# Altium schematic symbol library Motor Driver Board 2019-2020.SCHLIB: 73 symbols (part 2 of 2)
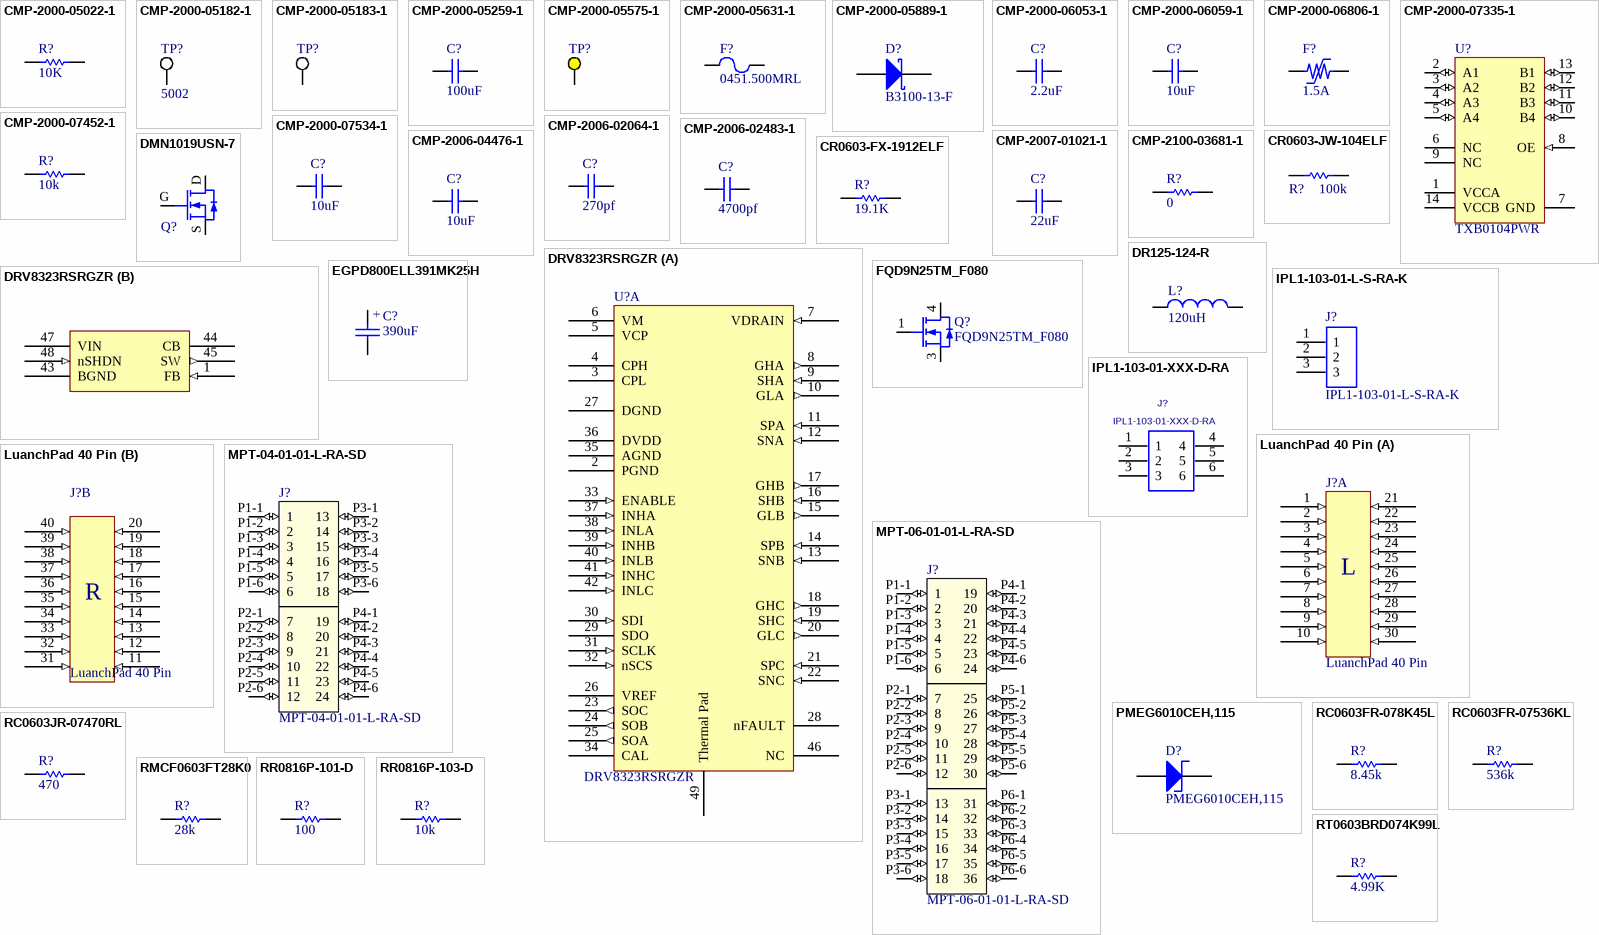
[diagram p3: symbols CMP-2000-05022-1 to RT0603BRD074K99L]

## CMP-2006-02064-1
designator C?, comment 270pf
Manufacturer: AVX Interconnect / Elco; Part Number: 06035C271KAT2A; Manufacturer 1: Kyocera AVX; ClassName: 5V Regulator; Manufacturer Part Number 1: 06035C271KAT2A
footprint CAPC1608X90X35ML15T15 (Chip Capacitor, 2-Leads, Body 1.60x0.81mm, IPC Low Density)
footprint CAPC1608X90X35LL15T15 (Chip Capacitor, 2-Leads, Body 1.60x0.81mm, IPC High Density)
footprint CAPC1608X90X35NL15T15 (Chip Capacitor, 2-Leads, Body 1.60x0.81mm, IPC Medium Density)
pins: 1, 2
1 alternate drawing of the same symbol

## CMP-2006-02483-1
designator C?, comment 4700pf
Part Number: GRM188R72A472KA01D; Manufacturer: Murata; ClassName: 5V Regulator; Manufacturer 1: Murata; Manufacturer Part Number 1: GRM188R72A472KA01D
footprint CAPC1608X90X35ML10T15 (Chip Capacitor, 2-Leads, Body 1.60x0.80mm, IPC Low Density)
footprint CAPC1608X90X35LL10T15 (Chip Capacitor, 2-Leads, Body 1.60x0.80mm, IPC High Density)
footprint CAPC1608X90X35NL10T15 (Chip Capacitor, 2-Leads, Body 1.60x0.80mm, IPC Medium Density)
pins: 1, 2
1 alternate drawing of the same symbol

## CMP-2006-04476-1
designator C?, comment 10uF
Manufacturer: AVX Interconnect / Elco; Part Number: 06036D106MAT2A; Manufacturer 1: Kyocera AVX; Manufacturer Part Number 1: 06036D106MAT2A
footprint CAPC1608X90X35ML15T15 (Chip Capacitor, 2-Leads, Body 1.60x0.81mm, IPC Low Density)
footprint CAPC1608X90X35LL15T15 (Chip Capacitor, 2-Leads, Body 1.60x0.81mm, IPC High Density)
footprint CAPC1608X90X35NL15T15 (Chip Capacitor, 2-Leads, Body 1.60x0.81mm, IPC Medium Density)
pins: 1, 2
1 alternate drawing of the same symbol

## CMP-2007-01021-1
designator C?, comment 22uF
Part Number: C0805C226M9PAC7800; Manufacturer: Kemet; Manufacturer Part Number 1: C0805C226M9PACTU; ClassName: Throttle; Manufacturer 1: KEMET
footprint CAPC2013X145X50ML20T25 (Chip Capacitor, 2-Leads, Body 2.00x1.25mm, IPC Low Density)
footprint CAPC2013X145X50LL20T25 (Chip Capacitor, 2-Leads, Body 2.00x1.25mm, IPC High Density)
footprint CAPC2013X145X50NL20T25 (Chip Capacitor, 2-Leads, Body 2.00x1.25mm, IPC Medium Density)
pins: 1, 2
1 alternate drawing of the same symbol

## CMP-2100-03681-1
designator R?, comment 0
Chip Resistor, 0 Ohm, +/- 5%, -55 to 155 degC, 1206 (3216 Metric), RoHS, Tape and Reel; Manufacturer: Yageo; Manufacturer Part Number 1: RC1206JR-070RL; Max Power Dissipation: 250mW; Resistance: 0mOhm; Voltage Rating: 200V; Temperature Coefficient: 200ppm/degreesC; Case Code (Imperial): 1206; Lead Free: LeadFree; Package Quantity: 5000; Radiation Hardening: No; Tolerance: 5%; Length: 3.1mm; Termination: SMD/SMT; Contact Plating: Tin; Military Standard: Not; Manufacturer URL: http://www.yageo.com/; Datasheet URL: http://www.yageo.com/documents/recent/PYu-RC_Group_51_RoHS_L_5.pdf; Height: 0.026inch; RoHSCompliant: true; Min Operating Temperature: -55degC; REACH SVHC: Unknown; Max Operating Temperature: 155degC; Depth: 1.6mm; Packaging: TapeandReel; Package Reference: 1206.0; Number of Terminations: 2; Case/Package: 1206; Composition: CarbonFilm; Case Code (Metric): 3216; Datasheet Version: Rev. 5, 10/2016; Power Rating: 250mW; Package Description: 2-Pin Surface Mount Device, Body 3.1 x 1.6 mm; Width: 0.063inch; ClassName: Throttle; Manufacturer 1: Yageo
footprint RESC3116X65X40ML10T20 (Chip Resistor, 2-Leads, Body 3.10x1.60mm, IPC Low Density)
footprint RESC3116X65X40NL10T20 (Chip Resistor, 2-Leads, Body 3.10x1.60mm, IPC Medium Density)
footprint RESC3116X65X40LL10T20 (Chip Resistor, 2-Leads, Body 3.10x1.60mm, IPC High Density)
pins: 1, 2

## CR0603-FX-1912ELF
designator R?, comment 19.1K
RES SMD 19.1K OHM 1% 1/10W 0603; Manufacturer 1: Bourns; Manufacturer Part Number 1: CR0603-FX-1912ELF; Resistance: 19.1kR; Power Rating: 100mW; Voltage Rating: 50V; Temperature Coefficient: 100ppm/°C; Supplier 1: Digi-Key; Stock 1: 78916; Pricing 1: 1=0.10000, 10=0.02000, 100=0.00820, 1000=0.00367, 2500=0.00319 (USD); RoHS: Yes; Mount: Surface Mount; Case/Package: 0603; Case Code (Metric): 1608; Case Code (Imperial): 0603; Contact Plating: Tin; Min Operating Temperature: -55°C; Max Operating Temperature: 155°C; Package Quantity: 5000; Packaging: Tape and Reel; Tolerance: 1%; Composition: Thick Film; Number of Terminations: 2; Termination: SMD/SMT; Military Standard: Not; Max Power Dissipation: 100mW; Features: Moisture Resistant; Length: 1.6mm; Height: 0.022inch; Width: 0.031inch; Depth: 0.8mm; Thickness: 457um; Radiation Hardening: No; ComponentLink1URL: https://datasheet.ciiva.com/5549/chpreztr-5549702.pdf?src-supplier=Mouser; ComponentLink1Description: https://datasheet.ciiva.com/5549/chpreztr-5549702.pdf?src-supplier=Mouser; ComponentLink2URL: https://datasheet.ciiva.com/9121/chpreztr-9121960.pdf?src-supplier=Avnet; ComponentLink2Description: https://datasheet.ciiva.com/9121/chpreztr-9121960.pdf?src-supplier=Avnet; ClassName: Throttle
footprint CAPC1608X05L (Chip Capacitor, 2-Leads, Body 1.60x0.80mm, IPC High Density)
pins: 1, 2

## CR0603-JW-104ELF
designator R?, comment 100k
BOURNS - CR0603-JW-104ELF - RES, 100K, 5%, 0.1W, 0603, THICK FILM; Resistance: 100kR; Power Rating: 100mW; Voltage Rating: 50V; Temperature Coefficient: 200ppm/°C; Supplier 1: Digi-Key; Manufacturer 1: Bourns; Manufacturer Part Number 1: CR0603-JW-104ELF; Stock 1: 49390; Pricing 1: 1=0.10000, 10=0.01500, 25=0.01080, 50=0.00840, 100=0.00610, 250=0.00468, 500=0.00374, 1000=0.00275 (USD); RoHS: Yes; Mount: Surface Mount; Case/Package: 0603; Number of Pins: 2; Case Code (Imperial): 0603; Case Code (Metric): 1608; Contact Plating: Tin; Min Operating Temperature: -55°C; Max Operating Temperature: 155°C; Packaging: Tape and Reel; Tolerance: 5%; Package Quantity: 5000; Composition: Thick Film; Termination: SMD/SMT; Working Voltage: 50V; Military Standard: Not; Voltage Rating (DC): 50V; Length: 1.6mm; Height: 0.45mm; Width: 0.8mm; Depth: 0.8mm; Thickness: 457um; Radiation Hardening: No; REACH SVHC: No SVHC; ComponentLink1URL: https://datasheet.ciiva.com/22713/691949-22713239.pdf?src-supplier=Element14; ComponentLink1Description: https://datasheet.ciiva.com/22713/691949-22713239.pdf?src-supplier=Element14; ComponentLink2URL: https://datasheet.ciiva.com/23776/1902866-23776391.pdf?src-supplier=Newark; ComponentLink2Description: https://datasheet.ciiva.com/23776/1902866-23776391.pdf?src-supplier=Newark; ComponentLink3URL: https://datasheet.ciiva.com/16766/70154685-16766760.pdf?src-supplier=Allied+Electronics; ComponentLink3Description: https://datasheet.ciiva.com/16766/70154685-16766760.pdf?src-supplier=Allied+Electronics; ComponentLink4URL: https://datasheet.ciiva.com/9120/chpreztr-9120764.pdf?src-supplier=Avnet; ComponentLink4Description: https://datasheet.ciiva.com/9120/chpreztr-9120764.pdf?src-supplier=Avnet; ComponentLink5URL: https://datasheet.ciiva.com/46383/1791942-46383790.pdf?src-supplier=Element14; ComponentLink5Description: https://datasheet.ciiva.com/46383/1791942-46383790.pdf?src-supplier=Element14; ComponentLink6URL: https://datasheet.ciiva.com/30229/159chpreztr-30229129.pdf?src-supplier=Onlinecomponents.com; ComponentLink6Description: https://datasheet.ciiva.com/30229/159chpreztr-30229129.pdf?src-supplier=Onlinecomponents.com; ComponentLink7URL: https://datasheet.ciiva.com/16935/chpreztr-16935963.pdf?src-supplier=Avnet+Europe; ComponentLink7Description: https://datasheet.ciiva.com/16935/chpreztr-16935963.pdf?src-supplier=Avnet+Europe; ComponentLink8URL: https://datasheet.ciiva.com/5543/chpreztr-5543676.pdf?src-supplier=Mouser; ComponentLink8Description: https://datasheet.ciiva.com/5543/chpreztr-5543676.pdf?src-supplier=Mouser; ComponentLink9URL: https://datasheet.ciiva.com/48692/001055501-da-01-en-smd-wid-cr0603-jw-104elf-100k-ohm-1-10w-48692133.pdf?src-supplier=Conrad; ComponentLink9Description: https://datasheet.ciiva.com/48692/001055501-da-01-en-smd-wid-cr0603-jw-104elf-100k-ohm-1-10w-48692133.pdf?src-supplier=Conrad; ClassName: 3.3V Regulator
footprint CAPC1608X05L (Chip Capacitor, 2-Leads, Body 1.60x0.80mm, IPC High Density)
pins: 1, 2

## DMN1019USN-7
designator Q?  (value not drawn)
MOSFET N-CH 12V 9.3A SC59; Manufacturer 1: Diodes; Capacitance: 2.426E-09F; Rds On Max: 10mR; Input Capacitance: 2.426nF; Max Power Dissipation: 680mW; Element Configuration: Single; Number of Channels: 1; Drain to Source Resistance: 41mR; Gate to Source Voltage (Vgs): 4.5V; Fall Time: 16.8ns; Rise Time: 57.6ns; Turn-Off Delay Time: 22.2ns; Turn-On Delay Time: 7.6ns; Supplier 1: Digi-Key; Manufacturer Part Number 1: DMN1019USN-7; Stock 1: 30621; Pricing 1: 1=0.44000, 10=0.35400, 100=0.24130, 500=0.18096, 1000=0.13572 (USD); RoHS: Yes; Mount: Surface Mount; Case/Package: TO-236-3; Weight: 0.000282oz; Min Operating Temperature: -55°C; Max Operating Temperature: 150°C; Packaging: Tape and Reel; Drain to Source Voltage (Vdss): 12V; Continuous Drain Current (ID): 9.3A; Drain to Source Breakdown Voltage: 12V; Package Quantity: 3000; Lead Free: Lead Free; ComponentLink1URL: http://www.mouser.com/ds/2/115/DMN1019USN-336718.pdf?src-supplier=Mouser; ComponentLink1Description: http://www.mouser.com/ds/2/115/DMN1019USN-336718.pdf?src-supplier=Mouser; ComponentLink2URL: https://www.diodes.com/assets/Datasheets/DMN1019USN.pdf?src-supplier=Digi-Key; ComponentLink2Description: https://www.diodes.com/assets/Datasheets/DMN1019USN.pdf?src-supplier=Digi-Key
footprint SOT95P285X140-3N (SOT23, 3-Leads, Body 3.00x2.85mm, Pitch 0.95mm, IPC Medium Density)
pins: D, G, S

## DR125-124-R
designator L?, comment 120uH
Fixed Inductors 120 000uH 0.069A 150ohms; Manufacturer 1: Eaton Bussmann; Manufacturer Part Number 1: DR125-124-R; Core Material: Ferrite; Tolerance: 20%; Shielding: Shielded; Saturation Current: 58A; Current Rating: 60mA; Inductance: 120mH; DC Resistance (DCR): 150R; Test Frequency: 100kHz; Current: 60A; Max DC Current: 69mA; Supplier 1: Digi-Key; Stock 1: 1520; Pricing 1: 1=1.95000, 10=1.80100, 100=1.26060 (USD); RoHS: Yes; Mount: Surface Mount; Case/Package: 120; Number of Pins: 2; Weight: 0.016oz; Min Operating Temperature: -40°C; Max Operating Temperature: 125°C; Packaging: Tape and Reel; Package Quantity: 600; Termination: SMD/SMT; DC Current: 60mA; Military Standard: Not; Length: 12.5mm; Height: 6mm; Width: 0.492inch; Depth: 12.5mm; Lead Free: Lead Free; ComponentLink1URL: https://datasheet.ciiva.com/16291/4a32919a-7470-4ae0-be45-b59e3a1351ef-16291744.pdf?src-supplier=Future+Electronics; ComponentLink1Description: https://datasheet.ciiva.com/16291/4a32919a-7470-4ae0-be45-b59e3a1351ef-16291744.pdf?src-supplier=Future+Electronics; ComponentLink2URL: https://datasheet.ciiva.com/4958/bus-elx-ds-4315-dr-series-4958109.pdf?src-supplier=Mouser; ComponentLink2Description: https://datasheet.ciiva.com/4958/bus-elx-ds-4315-dr-series-4958109.pdf?src-supplier=Mouser; ClassName: Throttle
footprint INDP125125X60N (Precision Wire Wound Inductor, 2-Leads, Body 12.50x12.50mm, IPC Medium Density)
pins: 1, 2

## DRV8323RSRGZR
designator U?
IC 3PHASE GATE DRIVER 48VQFN; Manufacturer: Texas Instruments; Supplier 1: Digi-Key; Manufacturer Part Number: DRV8323RSRGZR; Stock 1: 5951; Pricing 1: 1=4.44, 10=3.991, 100=3.2698, 500=2.78356, 1000=2.34758 (USD); Min Operating Temperature: -40°C; Max Operating Temperature: 125°C; Supplier 2: Digi-Key; Manufacturer 2: Texas Instruments; Manufacturer Part Number 2: DRV8323RSRGZR; Stock 2: 7391; Pricing 2: 1=4.44000, 10=3.99100, 100=3.26980, 500=2.78356, 1000=2.34758 (USD); RoHS: No; ComponentLink1URL: http://www.ti.com/lit/ds/symlink/drv8323r.pdf?src-supplier=Digi-Key; ComponentLink1Description: http://www.ti.com/lit/ds/symlink/drv8323r.pdf?src-supplier=Digi-Key
footprint QFN50P700X700X100_HS-49N (QFN, 48-Leads, Body 7.00x7.00mm, Pitch 0.50mm, Thermal Pad 5.15x5.15mm, IPC Medium Density)
part A pins: 2 PGND (power) "Device power ground. Connect to system ground.", 3 CPL (power) "Charge pump switching node. Connect a X5R or X7R, 47-nF, VM-rated ceramic capacitor between the CPH and CPL pins.", 4 CPH (power) "Charge pump switching node. Connect a X5R or X7R, 47-nF, VM-rated ceramic capacitor between the CPH and CPL pins.", 5 VCP (power) "Charge pump output. Connect a X5R or X7R, 1-µF, 16-V ceramic capacitor between the VCP and VM pins.", 6 VM (power) "Gate driver power supply input. Connect to the bridge power supply. Connect a X5R or X7R, 0.1-µF, VM-rated ceramic and  greater then or equal to 10-uF local capacitance between the VM and PGND pins.", 7 VDRAIN (in) "High-side MOSFET drain sense input. Connect to the common point of the MOSFET drains.", 8 GHA (out) "High-side gate driver output. Connect to the gate of the high-side power MOSFET", 9 SHA (in) "High-side source sense input. Connect to the high-side power MOSFET source.", 10 GLA (out) "Low-side gate driver output. Connect to the gate of the low-side power MOSFET.", 11 SPA (in) "Low-side source sense and shunt amplifier input. Connect to the low-side power MOSFET source and high-side of the  current shunt resistor.", 12 SNA (in) "Shunt amplifier input. Connect to the low-side of the current shunt resistor.", 13 SNB (in) "Shunt amplifier input. Connect to the low-side of the current shunt resistor.", 14 SPB (in) "Low-side source sense and shunt amplifier input. Connect to the low-side power MOSFET source and high-side of the  current shunt resistor.", 15 GLB (out) "Low-side gate driver output. Connect to the gate of the low-side power MOSFET.", 16 SHB (in) "High-side source sense input. Connect to the high-side power MOSFET source.", 17 GHB (out) "High-side gate driver output. Connect to the gate of the high-side power MOSFET", 18 GHC (out) "High-side gate driver output. Connect to the gate of the high-side power MOSFET", 19 SHC (in) "High-side source sense input. Connect to the high-side power MOSFET source.", 20 GLC (out) "Low-side gate driver output. Connect to the gate of the low-side power MOSFET.", 21 SPC (in) "Low-side source sense and shunt amplifier input. Connect to the low-side power MOSFET source and high-side of the  current shunt resistor.", 22 SNC (in) "Shunt amplifier input. Connect to the low-side of the current shunt resistor.", 23 SOC (out) "Shunt amplifier output.", 24 SOB (out) "Shunt amplifier output.", 25 SOA (out) "Shunt amplifier output.", 26 VREF (power) "Shunt amplifier power supply input and reference. Connect a X5R or X7R, 0.1-µF, 6.3-V ceramic capacitor between the  VREF and AGND pins.", 27 DGND (power) "Device ground. Connect to system ground.", 28 nFAULT (oc) "Fault indicator output. This pin is pulled logic low during a fault condition and requires an external pullup resistor", 29 SDO (oc) "Serial data output. Data is shifted out on the rising edge of the SCLK pin. This pin requires an external pullup resistor.", 30 SDI (in) "Serial data input. Data is captured on the falling edge of the SCLK pin.", 31 SCLK (in) "Serial clock input. Serial data is shifted out and captured on the corresponding rising and falling edge on this pin.", 32 nSCS (in) "Serial chip select. A logic low on this pin enables serial interface communication.", 33 ENABLE (in) "Gate driver enable. When this pin is logic low the device enters a low power sleep mode. An 8 to 40-µs low pulse can be  used to reset fault conditions.", 34 CAL (power) "Amplifier calibration input. Set logic high to internally short amplifier inputs and perform auto offset calibration.", 35 AGND (power) "Device analog ground. Connect to system ground.", 36 DVDD (power) "3.3-V internal regulator output. Connect a X5R or X7R, 1-µF, 6.3-V ceramic capacitor between the DVDD and AGND pins.  This regulator can source up to 30 mA externally.", 37 INHA (in) "High-side gate driver control input. This pin controls the output of the high-side gate driver.", 38 INLA (in) "Low-side gate driver control input. This pin controls the output of the low-side gate driver.", 39 INHB (in) "High-side gate driver control input. This pin controls the output of the high-side gate driver.", 40 INLB (in) "Low-side gate driver control input. This pin controls the output of the low-side gate driver.", 41 INHC (in) "High-side gate driver control input. This pin controls the output of the high-side gate driver.", 42 INLC (in) "Low-side gate driver control input. This pin controls the output of the low-side gate driver.", 46 NC (hiz) "No internal connection. This pin can be left floating or connected to system ground.", 49 Thermal Pad
part B pins: 1 FB (in) "Buck feedback input. A resistor divider from the buck post inductor output to this pin sets the buck output voltage.", 43 BGND (power) "Buck regulator ground. Connect to system ground.", 44 CB (power) "Buck regulator bootstrap input. Connect a X5R or X7R, 0.1-µF, 16-V, capacitor between the CB and SW pins", 45 SW (out) "Buck switch node. Connect this pin to an inductor, diode, and the CB bootstrap capacitor.", 47 VIN (power) "Buck regulator power supply input. Place an X5R or X7R, VM-rated ceramic capacitor between the VIN and BGND pins.", 48 nSHDN (in) "Buck shutdown input. Enable and disable input (high voltage tolerant). Internal pullup current source. Pull below 1.25 V to  disable. Float to enable. Establish input undervoltage lockout with two resistor divider."

## EGPD800ELL391MK25H
designator C?, comment 390uF
CAP ALUM 390UF 20% 80V RADIAL; Manufacturer 1: United Chemi-Con; Manufacturer Part Number 1: EGPD800ELL391MK25H; ESR (Equivalent Series Resistance): 52mR; Ripple Current: 2.05A; Life (Hours): 3000Hour; Lead/Base Style: Straight; Supplier 1: Digi-Key; Stock 1: 4261; Pricing 1: 1=1.62000, 10=1.28300, 100=0.96200, 500=0.72684, 1000=0.64133, 2500=0.59857, 5000=0.58147 (USD); RoHS: Yes; Mount: Through Hole; Case/Package: Radial; Min Operating Temperature: -40°C; Max Operating Temperature: 135°C; Capacitance: 390uF; Package Quantity: 1000; Packaging: Bulk; Voltage Rating: 80V; Tolerance: 20%; Termination: Radial; Voltage Rating (DC): 80V; Diameter: 12.5mm; Length: 25mm; Height: 12.5mm; Lead Pitch: 0.197inch; Height - Seated (Max): 1.043inch; Width: 12.5mm; ComponentLink1URL: https://datasheet.ciiva.com/31836/76cat-db-al-cgieejppdfnamegpd-cgieejppdfnamegpd-31836902.pdf?src-supplier=Onlinecomponents.com; ComponentLink1Description: https://datasheet.ciiva.com/31836/76cat-db-al-cgieejppdfnamegpd-cgieejppdfnamegpd-31836902.pdf?src-supplier=Onlinecomponents.com; ClassName: FETBridge
simulation model Model Name (Model Description)
footprint EGPD800ELL391MK25H
pins: 1, 2
text: +

## FQD9N25TM_F080
designator Q?
Trans MOSFET N-CH 250V 7.4A 3-Pin(2+Tab) DPAK T/R; Manufacturer: ON Semiconductor / Fairchild; Rise Time: 105ns; Fall Time: 45ns; Turn-Off Delay Time: 25ns; Turn-On Delay Time: 13ns; Gate to Source Voltage (Vgs): 30V; Rds On Max: 420mR; Input Capacitance: 700pF; Max Power Dissipation: 2.5W; Element Configuration: Single; Supplier 1: Digi-Key; Manufacturer Part Number: FQD9N25TM_F080; Stock 1: 2322; Pricing 1: 1=1.77, 10=1.563, 100=1.2355, 500=0.95816, 1000=0.75644 (USD); Mount: Surface Mount; Case/Package: TO-252-3; Number of Pins: 3; Weight: 0.26037g; Min Operating Temperature: -55°C; Max Operating Temperature: 150°C; Continuous Drain Current (ID): 7.4A; Package Quantity: 2500; Packaging: Tape and Reel; Drain to Source Voltage (Vdss): 250V; Drain to Source Breakdown Voltage: 250V; Power Dissipation: 2.5W; Drain to Source Resistance: 420mR; Radiation Hardening: No; ComponentLink1URL: https://www.fairchildsemi.com/tape-and-reel-drawings/PKG-TO252A03.pdf; ComponentLink1Description: https://www.fairchildsemi.com/tape-and-reel-drawings/PKG-TO252A03.pdf; ComponentLink2URL: https://www.fairchildsemi.com/datasheets/FQ/FQD9N25.pdf; ComponentLink2Description: https://www.fairchildsemi.com/datasheets/FQ/FQD9N25.pdf
footprint DPAK229P991X239-3N (D-PAK, 3-Pads, Body 6.21x6.73mm (max), IPC Medium Density)
pins: 1 G, 3 S, 4 D

## IPL1-103-01-L-S-RA-K
designator J?
CONN HEADER R/A 3POS 2.54MM; Manufacturer 1: Samtec; Max Current Rating: 7.4A; Number of Contacts: 3; Number of Ports: 1; Max Voltage Rating (AC): 675V; Gender: Male; Supplier 1: Digi-Key; Manufacturer Part Number 1: IPL1-103-01-L-S-RA-K; Stock 1: 209; Pricing 1: 1=2.59000, 10=2.34700, 100=2.01180, 500=1.67650, 1000=1.43700, 5000=1.27414 (USD); RoHS: Yes; Mount: Through Hole; Contact Material: Bronze; Contact Plating: Gold; Number of Terminals: 3; Housing Material: Polymer; Min Operating Temperature: -55°C; Max Operating Temperature: 125°C; Termination: Solder; Orientation: Right Angle; Packaging: Bulk; Length: 9.14mm; Pitch: 2.54mm; Depth: 9.65mm; Radiation Hardening: No; ComponentLink1URL: http://www.farnell.com/datasheets/2607185.pdf?src-supplier=Farnell; ComponentLink1Description: http://www.farnell.com/datasheets/2607185.pdf?src-supplier=Farnell; ComponentLink2URL: http://components.arrow.com/part/dataview/0323_03818136?src-supplier=Arrow+Europe; ComponentLink2Description: http://components.arrow.com/part/dataview/0323_03818136?src-supplier=Arrow+Europe; ComponentLink3URL: http://www.samtec.com/documents/webfiles/pdf/ipl1.pdf?src-supplier=Avnet+Europe; ComponentLink3Description: http://www.samtec.com/documents/webfiles/pdf/ipl1.pdf?src-supplier=Avnet+Europe; ComponentLink4URL: http://www.samtec.com/documents/webfiles/pdf/ipl1.pdf?src-supplier=Avnet; ComponentLink4Description: http://www.samtec.com/documents/webfiles/pdf/ipl1.pdf?src-supplier=Avnet; ComponentLink5URL: http://www.farnell.com/datasheets/2607185.pdf?src-supplier=Newark; ComponentLink5Description: http://www.farnell.com/datasheets/2607185.pdf?src-supplier=Newark; ComponentLink6URL: http://suddendocs.samtec.com/prints/ipl1-1xx-xx-xxx-s-xx-x-xx-mkt.pdf?src-supplier=Digi-Key; ComponentLink6Description: http://suddendocs.samtec.com/prints/ipl1-1xx-xx-xxx-s-xx-x-xx-mkt.pdf?src-supplier=Digi-Key
footprint IPL1-103-01-XXX-S-RA
pins: 1, 2, 3

## IPL1-103-01-XXX-D-RA
designator J?
Terminal Assembly, Double Row, Right Angle, Thru-Hole, 0.100" x 0.100" Pitch, 6Pins; MANUFACTURER: SAMTEC; CREATED: July 16, 2014 - Wendy Xin; PCB DECAL: IPL1-103-01-XXX-D-RA
footprint IPL1-103-01-XXX-D-RA
pins: 1, 2, 3, 4, 5, 6

## LuanchPad 40 Pin
designator J?
Designed to fit a TI luanchpad board or expansion board
footprint TI LuanchPad (Fits ti LuanchPad)
part A pins: 1 (in), 2 (in), 3 (in), 4 (in), 5 (in), 6 (in), 7 (in), 8 (in), 9 (in), 10 (in), 21 (in), 22 (in), 23 (in), 24 (in), 25 (in), 26 (in), 27 (in), 28 (in), 29 (in), 30 (in)
part B pins: 11 (in), 12 (in), 13 (in), 14 (in), 15 (in), 16 (in), 17 (in), 18 (in), 19 (in), 20 (in), 31 (in), 32 (in), 33 (in), 34 (in), 35 (in), 36 (in), 37 (in), 38 (in), 39 (in), 40 (in)
part A text: L
part B text: R

## MPT-04-01-01-L-RA-SD
designator J?
SAMTEC - MPT-04-01-01-L-RA-SD - HEADER, 4WAY, POWER, R/A; Current Rating: 34.8A; Voltage Rating: 848V; Number of Contacts: 4; Number of Ports: 1; Max Voltage Rating (AC): 600V; Gender: Male; Pitch: 5mm; Supplier 1: Digi-Key; Manufacturer 1: Samtec; Manufacturer Part Number 1: MPT-04-01-01-L-RA-SD; Stock 1: 186; Pricing 1: 1=5.98000, 48=5.25792, 144=4.78000, 528=4.06299, 1008=3.46550 (USD); RoHS: Yes; Mount: Through Hole; Contact Plating: Gold; Contact Material: Copper Alloy,Copper; Number of Terminals: 32; Housing Material: Polymer; Min Operating Temperature: -55°C; Max Operating Temperature: 125°C; Number of Rows: 1; Packaging: Bulk; Termination: Solder; Orientation: Right Angle; Length: 31.36mm; Lead Pitch: 5mm; Depth: 14.81mm; Radiation Hardening: No; REACH SVHC: No SVHC; ComponentLink1URL: https://datasheet.ciiva.com/7997/452746-7997632.pdf?src-supplier=Element14; ComponentLink1Description: https://datasheet.ciiva.com/7997/452746-7997632.pdf?src-supplier=Element14; ComponentLink2URL: https://datasheet.ciiva.com/25617/0900766b81157edd-25617154.pdf?src-supplier=RSComponents; ComponentLink2Description: https://datasheet.ciiva.com/25617/0900766b81157edd-25617154.pdf?src-supplier=RSComponents; ComponentLink3URL: https://datasheet.ciiva.com/9446/mps-ra-9446008.pdf?src-supplier=Avnet; ComponentLink3Description: https://datasheet.ciiva.com/9446/mps-ra-9446008.pdf?src-supplier=Avnet; ClassName: FETBridge
footprint *MPT-04-01-XX-X-RA-SD
pins: P1-1 1 (io), P1-2 2 (io), P1-3 3 (io), P1-4 4 (io), P1-5 5 (io), P1-6 6 (io), P2-1 7 (io), P2-2 8 (io), P2-3 9 (io), P2-4 10 (io), P2-5 11 (io), P2-6 12 (io), P3-1 13 (io), P3-2 14 (io), P3-3 15 (io), P3-4 16 (io), P3-5 17 (io), P3-6 18 (io), P4-1 19 (io), P4-2 20 (io), P4-3 21 (io), P4-4 22 (io), P4-5 23 (io), P4-6 24 (io)

## MPT-06-01-01-L-RA-SD
designator J?
Conn Mini-Power Terminal Strip HDR 6 POS Solder RA Thru-Hole 36 Terminal 1 Port; Manufacturer 1: Samtec; Number of Contacts: 6; Voltage Rating: 848V; Number of Ports: 1; Max Voltage Rating (AC): 600V; Gender: Male; Pitch: 5mm; Supplier 1: Digi-Key; Manufacturer Part Number 1: MPT-06-01-01-L-RA-SD; Stock 1: 373; Pricing 1: 1=7.27000, 48=6.36292, 144=5.75701, 528=4.84799, 1008=4.24200 (USD); RoHS: Yes; Mount: Through Hole; Contact Material: Copper Alloy,Copper; Contact Plating: Gold; Number of Terminals: 36; Housing Material: Polymer; Min Operating Temperature: -55°C; Max Operating Temperature: 125°C; Termination: Solder; Orientation: Right Angle; Packaging: Bulk; Number of Rows: 1; Lead Pitch: 5mm; Depth: 14.81mm; Radiation Hardening: No; REACH SVHC: No SVHC; ComponentLink1URL: https://datasheet.ciiva.com/25617/0900766b81157edd-25617181.pdf?src-supplier=RSComponents; ComponentLink1Description: https://datasheet.ciiva.com/25617/0900766b81157edd-25617181.pdf?src-supplier=RSComponents; ComponentLink2URL: https://datasheet.ciiva.com/16677/mps-ra-16677806.pdf?src-supplier=Avnet+Europe; ComponentLink2Description: https://datasheet.ciiva.com/16677/mps-ra-16677806.pdf?src-supplier=Avnet+Europe
footprint *MPT-06-01-XX-X-RA-SD; pin to pad P1-1>1 P1-2>2 P1-3>3 P1-4>4 P1-5>5 P1-6>6 P2-1>7 P2-2>8 P2-3>9 P2-4>10 P2-5>11 P2-6>12 P3-1>13 P3-2>14 P3-3>15 P3-4>16 P3-5>17 P3-6>18 P4-1>19 P4-2>20 P4-3>21 P4-4>22 P4-5>23 P4-6>24 P5-1>25 P5-2>26 P5-3>27 P5-4>28 P5-5>29 P5-6>30 P6-1>31 P6-2>32 P6-3>33 P6-4>34 P6-5>35 P6-6>36
pins: P1-1 1 (io), P1-2 2 (io), P1-3 3 (io), P1-4 4 (io), P1-5 5 (io), P1-6 6 (io), P2-1 7 (io), P2-2 8 (io), P2-3 9 (io), P2-4 10 (io), P2-5 11 (io), P2-6 12 (io), P3-1 13 (io), P3-2 14 (io), P3-3 15 (io), P3-4 16 (io), P3-5 17 (io), P3-6 18 (io), P4-1 19 (io), P4-2 20 (io), P4-3 21 (io), P4-4 22 (io), P4-5 23 (io), P4-6 24 (io), P5-1 25 (io), P5-2 26 (io), P5-3 27 (io), P5-4 28 (io), P5-5 29 (io), P5-6 30 (io), P6-1 31 (io), P6-2 32 (io), P6-3 33 (io), P6-4 34 (io), P6-5 35 (io), P6-6 36 (io)

## PMEG6010CEH,115
designator D?
NEXPERIA - PMEG6010CEH,115 - DIODE, SCHOTTKY, 1A, 60V, SOD-123F; Supplier 1: Digi-Key; Manufacturer 1: Nexperia; Manufacturer Part Number 1: PMEG6010CEH,115; Stock 1: 154416; Pricing 1: 1=0.46000, 10=0.34400, 100=0.21410, 500=0.14650, 1000=0.11269 (USD); RoHS: No; ComponentLink1URL: https://www.mouser.com/ds/2/302/PMEG6010CEH_PMEG6010CEJ-102368.pdf?src-supplier=Mouser; ComponentLink1Description: https://www.mouser.com/ds/2/302/PMEG6010CEH_PMEG6010CEJ-102368.pdf?src-supplier=Mouser; ComponentLink2URL: http://www.farnell.com/datasheets/109684.pdf?src-supplier=Farnell; ComponentLink2Description: http://www.farnell.com/datasheets/109684.pdf?src-supplier=Farnell; ComponentLink3URL: https://assets.nexperia.com/documents/data-sheet/PMEG6010CEH_PMEG6010CEJ.pdf?src-supplier=Digi-Key; ComponentLink3Description: https://assets.nexperia.com/documents/data-sheet/PMEG6010CEH_PMEG6010CEJ.pdf?src-supplier=Digi-Key; ClassName: 3.3V Regulator
footprint SODFL350X120-2N (SODFL, 2-Leads, Body 1.60x3.50mm, IPC Medium Density)
pins: 1 K, 2 A

## RC0603FR-078K45L
designator R?, comment 8.45k
RES SMD 8.45K OHM 1% 1/10W 0603; Manufacturer 1: Yageo; Manufacturer Part Number 1: RC0603FR-078K45L; Resistance: 8.45kR; Power Rating: 100mW; Voltage Rating: 50V; Temperature Coefficient: 100ppm/°C; Supplier 1: Digi-Key; Stock 1: 1203753; Pricing 1: 1=0.10000, 10=0.02400, 100=0.00970, 1000=0.00437, 2500=0.00379 (USD); RoHS: Yes; Case/Package: Molded; Case Code (Imperial): 0603; Case Code (Metric): 1608; Min Operating Temperature: -55°C; Max Operating Temperature: 155°C; Tolerance: 1%; Packaging: Tape and Reel; Termination: SMD/SMT; Military Standard: Not; Composition: Thick Film; Voltage Rating (DC): 50V; Length: 1.6mm; Depth: 0.8mm; Lead Free: Lead Free; ComponentLink1URL: http://www.mouser.com/ds/2/447/RC0603-272842.pdf?src-supplier=Mouser; ComponentLink1Description: http://www.mouser.com/ds/2/447/RC0603-272842.pdf?src-supplier=Mouser; ComponentLink2URL: http://components.arrow.com/part/dataview/0323_03543311?src-supplier=Arrow+Europe; ComponentLink2Description: http://components.arrow.com/part/dataview/0323_03543311?src-supplier=Arrow+Europe; ComponentLink3URL: https://www.verical.com/server-webapp/html/getDatasheet?partID=329317&src-supplier=Verical; ComponentLink3Description: https://www.verical.com/server-webapp/html/getDatasheet?partID=329317&src-supplier=Verical; ComponentLink4URL: http://www.yageo.com/documents/recent/PYu-RC_Group_51_RoHS_L_9.pdf?src-supplier=Digi-Key; ComponentLink4Description: http://www.yageo.com/documents/recent/PYu-RC_Group_51_RoHS_L_9.pdf?src-supplier=Digi-Key; ComponentLink5URL: http://www.yageo.com/documents/recent/PYu-RC0603_51_RoHS_L_7.pdf?src-supplier=Future+Electronics; ComponentLink5Description: http://www.yageo.com/documents/recent/PYu-RC0603_51_RoHS_L_7.pdf?src-supplier=Future+Electronics; ClassName: 3.3V Regulator
footprint CAPC1608X05L (Chip Capacitor, 2-Leads, Body 1.60x0.80mm, IPC High Density)
pins: 1, 2

## RC0603FR-07536KL
designator R?, comment 536k
RES SMD 536K OHM 1% 1/10W 0603; Manufacturer 1: Yageo; Manufacturer Part Number 1: RC0603FR-07536KL; Resistance: 536kR; Temperature Coefficient: 100ppm/°C; Power Rating: 100mW; Voltage Rating: 50V; Supplier 1: Digi-Key; Stock 1: 45136; Pricing 1: 1=0.10000, 10=0.02400, 100=0.00970, 1000=0.00437, 2500=0.00379 (USD); RoHS: Yes; Case/Package: 0603; Contact Plating: Tin,Matte; Case Code (Imperial): 0603; Case Code (Metric): 1608; Min Operating Temperature: -55°C; Max Operating Temperature: 155°C; Tolerance: 1%; Composition: Thick Film; Packaging: Tape and Reel; Termination: SMD/SMT; Voltage Rating (DC): 50V; Length: 1.6mm; Height: 0.45mm; Width: 0.8mm; Lead Free: Lead Free; ComponentLink1URL: https://datasheet.ciiva.com/8885/pyu-rc0603-51-rohs-l-4-8885383.pdf?src-supplier=Avnet; ComponentLink1Description: https://datasheet.ciiva.com/8885/pyu-rc0603-51-rohs-l-4-8885383.pdf?src-supplier=Avnet; ComponentLink2URL: https://datasheet.ciiva.com/12558/rc0603-272842-12558314.pdf?src-supplier=Mouser; ComponentLink2Description: https://datasheet.ciiva.com/12558/rc0603-272842-12558314.pdf?src-supplier=Mouser; ComponentLink3URL: https://datasheet.ciiva.com/28389/pyu-rc0603-51-rohs-l-4-28389818.pdf?src-supplier=Avnet+Europe; ComponentLink3Description: https://datasheet.ciiva.com/28389/pyu-rc0603-51-rohs-l-4-28389818.pdf?src-supplier=Avnet+Europe; ClassName: Throttle
footprint CAPC1608X05L (Chip Capacitor, 2-Leads, Body 1.60x0.80mm, IPC High Density)
pins: 1, 2

## RC0603JR-07470RL
designator R?, comment 470
RES SMD 470 OHM 5% 1/10W 0603; Manufacturer: Yageo; Manufacturer Part Number: RC0603JR-07470RL; Resistance: 470R; Temperature Coefficient: 100ppm/°C; Voltage Rating (DC): 50V; Power Rating: 100mW; Supplier 1: Digi-Key; RoHS: Yes; Stock 1: 12870080; Pricing 1: 1 = 0.10000, 10 = 0.02000, 100 = 0.00810, 1000 = 0.00362, 2500 = 0.00314 (USD); Case/Package: 0603; Number of Pins: 2; Case Code (Imperial): 0603; Case Code (Metric): 1608; Min Operating Temperature: -55°C; Max Operating Temperature: 155°C; Tolerance: 5%; Composition: Thick Film; Packaging: Tape and Reel; Voltage Rating: 50V; Package Quantity: 1; Termination: SMD/SMT; Number of Terminations: 2; Military Standard: Not; Max Power Dissipation: 100mW; Features: Moisture Resistant; Length: 0.063inch; Height: 0.022inch; Width: 0.031inch; Depth: 0.8mm; REACH SVHC: No SVHC; Lead Free: Lead Free; ComponentLink1URL: http://www.yageo.com/documents/recent/PYu-RC_Group_51_RoHS_L_10.pdf; ComponentLink1Description: http://www.yageo.com/documents/recent/PYu-RC_Group_51_RoHS_L_10.pdf; ComponentLink2URL: http://www.farnell.com/datasheets/443971.pdf; ComponentLink2Description: http://www.farnell.com/datasheets/443971.pdf; ClassName: FETBridge
footprint CAPC1608X05L (Chip Capacitor, 2-Leads, Body 1.60x0.80mm, IPC High Density)
pins: 1, 2

## RMCF0603FT28K0
designator R?, comment 28k
RES SMD 28K OHM 1% 1/10W 0603; Manufacturer 1: Stackpole Electronics; Manufacturer Part Number 1: RMCF0603FT28K0; Resistance: 28kR; Power Rating: 100mW; Temperature Coefficient: 100ppm/°C; Supplier 1: Digi-Key; Stock 1: 126187; Pricing 1: 1=0.10000, 10=0.01700, 100=0.00680, 1000=0.00306, 2500=0.00266 (USD); RoHS: Yes; Mount: Surface Mount; Case/Package: 0603; Case Code (Metric): 1608; Case Code (Imperial): 0603; Contact Plating: Tin,Matte; Min Operating Temperature: -55°C; Max Operating Temperature: 155°C; Tolerance: 1%; Packaging: Tape and Reel; Composition: Thick Film; Number of Terminations: 2; Max Power Dissipation: 100mW; Features: Automotive AEC-Q200; Length: 0.061inch; Height: 0.022inch; Width: 0.031inch; Radiation Hardening: No; Lead Free: Lead Free; ComponentLink1URL: https://www.seielect.com/Catalog/SEI-RMCF_RMCP.pdf?src-supplier=Digi-Key; ComponentLink1Description: https://www.seielect.com/Catalog/SEI-RMCF_RMCP.pdf?src-supplier=Digi-Key; ComponentLink2URL: https://www.seielect.com/catalog/SEI-Packaging.pdf?src-supplier=Digi-Key; ComponentLink2Description: https://www.seielect.com/catalog/SEI-Packaging.pdf?src-supplier=Digi-Key; ComponentLink3URL: http://components.arrow.com/part/dataview/50505137S2698N1174?src-supplier=Arrow; ComponentLink3Description: http://components.arrow.com/part/dataview/50505137S2698N1174?src-supplier=Arrow; ComponentLink4URL: https://www.seielect.com/catalog/SEI-RMCF_RMCP.pdf?src-supplier=Avnet; ComponentLink4Description: https://www.seielect.com/catalog/SEI-RMCF_RMCP.pdf?src-supplier=Avnet; ComponentLink5URL: http://www.seielect.com/Catalog/SEI-RMC.pdf?src-supplier=Future+Electronics; ComponentLink5Description: http://www.seielect.com/Catalog/SEI-RMC.pdf?src-supplier=Future+Electronics; ClassName: 3.3V Regulator
footprint CAPC1608X05L (Chip Capacitor, 2-Leads, Body 1.60x0.80mm, IPC High Density)
pins: 1, 2

## RR0816P-101-D
designator R?, comment 100
RES SMD 100 OHM 0.5% 1/16W 0816; Manufacturer: Susumu; Manufacturer Part Number: RR0816P-101-D; Resistance: 100R; Power Rating: 63mW; Voltage Rating: 75V; Temperature Coefficient: 25ppm/°C; Supplier 1: Digi-Key; RoHS: Yes; Stock 1: 167672; Pricing 1: 1 = 0.11000, 10 = 0.09800, 100 = 0.03760, 1000 = 0.01654, 2500 = 0.01428 (USD); Case/Package: 0603; Number of Pins: 2; Weight: 7.1E-05oz; Case Code (Metric): 1608; Case Code (Imperial): 0603; Min Operating Temperature: -55°C; Max Operating Temperature: 125°C; Package Quantity: 1; Tolerance: 0.5%; Packaging: Cut Tape; Composition: Thin Film; Number of Terminations: 2; Termination: SMD/SMT; Max Power Dissipation: 63mW; Voltage Rating (DC): 75V; Length: 1.6mm; Height: 0.4mm; Width: 0.031inch; Depth: 0.8mm; REACH SVHC: Unknown; Lead Free: Lead Free; ComponentLink1URL: http://www.susumu.co.jp/common/pdf/n_catalog_partition05_en.pdf; ComponentLink1Description: http://www.susumu.co.jp/common/pdf/n_catalog_partition05_en.pdf; ComponentLink2URL: http://documents.rs-components.com/techlib://itc_doclist_GB.htm?stockno=3915191; ComponentLink2Description: http://documents.rs-components.com/techlib://itc_doclist_GB.htm?stockno=3915191
footprint CAPC1608X05L (Chip Capacitor, 2-Leads, Body 1.60x0.80mm, IPC High Density)
simulation model Model Name (Model Description)
pins: 1, 2

## RR0816P-103-D
designator R?, comment 10k
RES SMD 10K OHM 0.5% 1/16W 0816; Manufacturer: Susumu; Manufacturer Part Number: RR0816P-103-D; Resistance: 10kR; Power Rating: 63mW; Voltage Rating: 75V; Temperature Coefficient: 25ppm/°C; Supplier 1: Digi-Key; Stock 1: 1031099; Pricing 1: 1=0.11, 10=0.098, 100=0.0376, 1000=0.01654, 2500=0.01428 (USD); Case/Package: 0603; Number of Pins: 2; Weight: 7.1E-05oz; Case Code (Imperial): 0603; Case Code (Metric): 1608; Min Operating Temperature: -55°C; Max Operating Temperature: 125°C; Packaging: Tape and Reel; Tolerance: 0.5%; Package Quantity: 1; Termination: SMD/SMT; Composition: Thin Film; Number of Terminations: 2; Max Power Dissipation: 63mW; Voltage Rating (DC): 75V; Length: 1.6mm; Height: 0.4mm; Width: 0.8mm; Depth: 0.8mm; REACH SVHC: Unknown; Lead Free: Lead Free; ComponentLink1URL: http://documents.rs-components.com/techlib://itc_doclist_GB.htm?stockno=3915321; ComponentLink1Description: http://documents.rs-components.com/techlib://itc_doclist_GB.htm?stockno=3915321; ComponentLink2URL: http://www.susumu.co.jp/common/pdf/n_catalog_partition05_en.pdf; ComponentLink2Description: http://www.susumu.co.jp/common/pdf/n_catalog_partition05_en.pdf
simulation model Model Name (Model Description)
signal-integrity model Model Name (Model Description)
footprint CAPC1608X05L (Chip Capacitor, 2-Leads, Body 1.60x0.80mm, IPC High Density)
pins: 1, 2

## RT0603BRD074K99L
designator R?, comment 4.99K
RES SMD 4.99K OHM 0.1% 1/10W; Manufacturer 1: Yageo; Manufacturer Part Number 1: RT0603BRD074K99L; Resistance: 4.99kR; Temperature Coefficient: 25ppm/°C; Power Rating: 100mW; Voltage Rating: 75V; Voltage Rating (DC): 50V; Supplier 1: Digi-Key; Stock 1: 53078; Pricing 1: 1=0.37000, 10=0.31200, 100=0.12190, 1000=0.05103, 2500=0.04678 (USD); RoHS: Yes; Case/Package: 0603; Weight: 7.1E-05oz; Contact Plating: Tin,Matte; Case Code (Metric): 1608; Case Code (Imperial): 0603; Min Operating Temperature: -55°C; Max Operating Temperature: 125°C; Tolerance: 0.1%; Composition: Thin Film; Package Quantity: 5000; Packaging: Tape and Reel; Number of Terminations: 2; Termination: SMD/SMT; Military Standard: Not; Max Power Dissipation: 100mW; Features: Moisture Resistant; Length: 1.6mm; Height: 0.022inch; Width: 0.031inch; Depth: 0.8mm; Radiation Hardening: No; Lead Free: Lead Free; ComponentLink1URL: https://datasheet.ciiva.com/2585/pyu-rt-1-to-0-05-rohs-l-4-2585984.pdf?src-supplier=Digi-Key; ComponentLink1Description: https://datasheet.ciiva.com/2585/pyu-rt-1-to-0-05-rohs-l-4-2585984.pdf?src-supplier=Digi-Key; ComponentLink2URL: https://datasheet.ciiva.com/46635/pyu-rt-1-to-0-05-rohs-l-5-46635030.pdf?src-supplier=Digi-Key; ComponentLink2Description: https://datasheet.ciiva.com/46635/pyu-rt-1-to-0-05-rohs-l-5-46635030.pdf?src-supplier=Digi-Key; ComponentLink3URL: https://datasheet.ciiva.com/12836/pyu-rt-1-to-0-05-rohs-l-4-12836462.pdf?src-supplier=Mouser; ComponentLink3Description: https://datasheet.ciiva.com/12836/pyu-rt-1-to-0-05-rohs-l-4-12836462.pdf?src-supplier=Mouser
footprint CAPC1608X05L (Chip Capacitor, 2-Leads, Body 1.60x0.80mm, IPC High Density)
pins: 1, 2

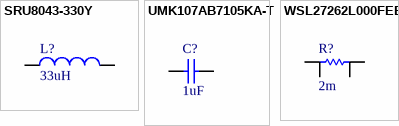
[diagram p2: symbols SRU8043-330Y to WSL27262L000FEB]

## SRU8043-330Y
designator L?, comment 33uH
Fixed Inductors 33uH 30% SMD 8043; Manufacturer 1: Bourns; Manufacturer Part Number 1: SRU8043-330Y; Core Material: Ferrite; DC Resistance (DCR): 100mR; Max DC Current: 1.7A; Saturation Current: 1.4A; Shielding: Shielded; Self Resonant Frequency: 11MHz; Q Factor: 21; Test Frequency: 100kHz; Supplier 1: Digi-Key; Stock 1: 3183; Pricing 1: 1=0.97000, 10=0.89700, 100=0.64860, 500=0.49680 (USD); RoHS: Yes; Mount: Surface Mount; Case/Package: Nonstandard; Number of Pins: 2; Min Operating Temperature: -40°C; Max Operating Temperature: 125°C; Tolerance: 30%; Inductance: 33uH; Packaging: Tape and Reel; Package Quantity: 1000; Current Rating: 1.7A; Composition: Wirewound; Termination: SMD/SMT; DC Current: 1.7A; Military Standard: Not; Length: 0.315inch; Height: 0.169inch; Width: 0.315inch; Height - Seated (Max): 0.181inch; Depth: 8.3mm; ComponentLink1URL: https://datasheet.ciiva.com/4959/sru8043-34397-4959893.pdf?src-supplier=Mouser; ComponentLink1Description: https://datasheet.ciiva.com/4959/sru8043-34397-4959893.pdf?src-supplier=Mouser; ComponentLink2URL: https://datasheet.ciiva.com/6708/sru8043-6708554.pdf?src-supplier=Digi-Key; ComponentLink2Description: https://datasheet.ciiva.com/6708/sru8043-6708554.pdf?src-supplier=Digi-Key; ComponentLink3URL: https://datasheet.ciiva.com/48684/sru8043-48684874.pdf?src-supplier=Avnet; ComponentLink3Description: https://datasheet.ciiva.com/48684/sru8043-48684874.pdf?src-supplier=Avnet; ComponentLink4URL: https://datasheet.ciiva.com/41680/70887-41680748.pdf?src-supplier=Newark; ComponentLink4Description: https://datasheet.ciiva.com/41680/70887-41680748.pdf?src-supplier=Newark; ClassName: 3.3V Regulator
footprint INDP8080X46L (Precision Wire Wound Inductor, 2-Leads, Body 8.00x8.00mm, IPC High Density)
pins: 1, 2

## UMK107AB7105KA-T
designator C?, comment 1uF
CAP CER 1UF 50V X7R 0603; Manufacturer: Taiyo Yuden; Manufacturer Part Number: GMK107AB7105MAHT; Tolerance: 10%; Supplier 1: Digi-Key; Stock 1: 1780; Pricing 1: 1=0.29, 10=0.201, 100=0.1017, 500=0.0696, 1000=0.06158 (USD); Supplier 2: Digi-Key; Stock 2: 4000; Pricing 2: 1=0.29, 10=0.198, 100=0.1124, 500=0.07936, 1000=0.06943 (USD); Mount: Surface Mount; Case/Package: 0603; Case Code (Metric): 1608; Case Code (Imperial): 0603; Min Operating Temperature: -55°C; Max Operating Temperature: 125°C; Capacitance: 1uF; Packaging: Tape and Reel; Package Quantity: 1; Voltage Rating: 50V; Voltage Rating (DC): 50V; Dielectric: X7R; Termination: SMD/SMT; Length: 1.6mm; Height: 0.8mm; Width: 0.031inch; Thickness: 0.037inch; Depth: 0.8mm; Radiation Hardening: No; Halogen Free: Halogen Free; ComponentLink1URL: https://www.yuden.co.jp/productdata/catalog/mlcc_all_e.pdf; ComponentLink1Description: https://www.yuden.co.jp/productdata/catalog/mlcc_all_e.pdf
footprint CAPC1608X05L (Chip Capacitor, 2-Leads, Body 1.60x0.80mm, IPC High Density)
simulation model Model Name (Model Description)
signal-integrity model Model Name (Model Description)
pins: 1, 2

## WSL27262L000FEB
designator R?, comment 2m
RES SMD 2 MOHM 1% 3W 2726; Manufacturer 1: Vishay Dale; Manufacturer Part Number 1: WSL27262L000FEB; Resistance: 2mR; Temperature Coefficient: 75ppm/°C; Supplier 1: Digi-Key; Stock 1: 5164; Pricing 1: 1=2.51000, 10=2.22300, 25=2.06160, 50=1.94040, 100=1.69790, 250=1.45532, 500=1.21276 (USD); RoHS: Yes; Case/Package: 2726; Case Code (Imperial): 2726; Case Code (Metric): 6966; Min Operating Temperature: -65°C; Max Operating Temperature: 170°C; Packaging: Tape and Reel; Power Rating: 3W; Tolerance: 1%; Package Quantity: 1000; Termination: SMD/SMT; Composition: Metal Strip; Length: 6.9mm; Height: 3mm; Width: 6.6mm; ComponentLink1URL: http://www.mouser.com/ds/2/427/wsl2726-88189.pdf?src-supplier=Mouser; ComponentLink1Description: http://www.mouser.com/ds/2/427/wsl2726-88189.pdf?src-supplier=Mouser; ComponentLink2URL: https://media.digikey.com/pdf/Data%20Sheets/Vishay%20Dale%20PDFs/WSL_C_N_F_H_R_Series_EB_Pkg.pdf?src-supplier=Digi-Key; ComponentLink2Description: https://media.digikey.com/pdf/Data%20Sheets/Vishay%20Dale%20PDFs/WSL_C_N_F_H_R_Series_EB_Pkg.pdf?src-supplier=Digi-Key; ComponentLink3URL: http://www.vishay.com/docs/30131/wsl2726.pdf?src-supplier=Digi-Key; ComponentLink3Description: http://www.vishay.com/docs/30131/wsl2726.pdf?src-supplier=Digi-Key; ClassName: FETBridge
footprint WSL27262L000FEB (Precision current sense resistor)
pins: 1, 2, 3, 4